# Altium footprint library DIP Connector BtoB.PcbLib: 27 footprints (part 2 of 2)
Each footprint in its own frame and in the unit in brackets; x right, y up, seen from the top. Pads: shape width x height; smd on the part's side, far side on the other; paste and mask are expansions set on the pad; w line width, h text height; cw(c..) or ccw(c..) is an arc to the next point about the centre after c.
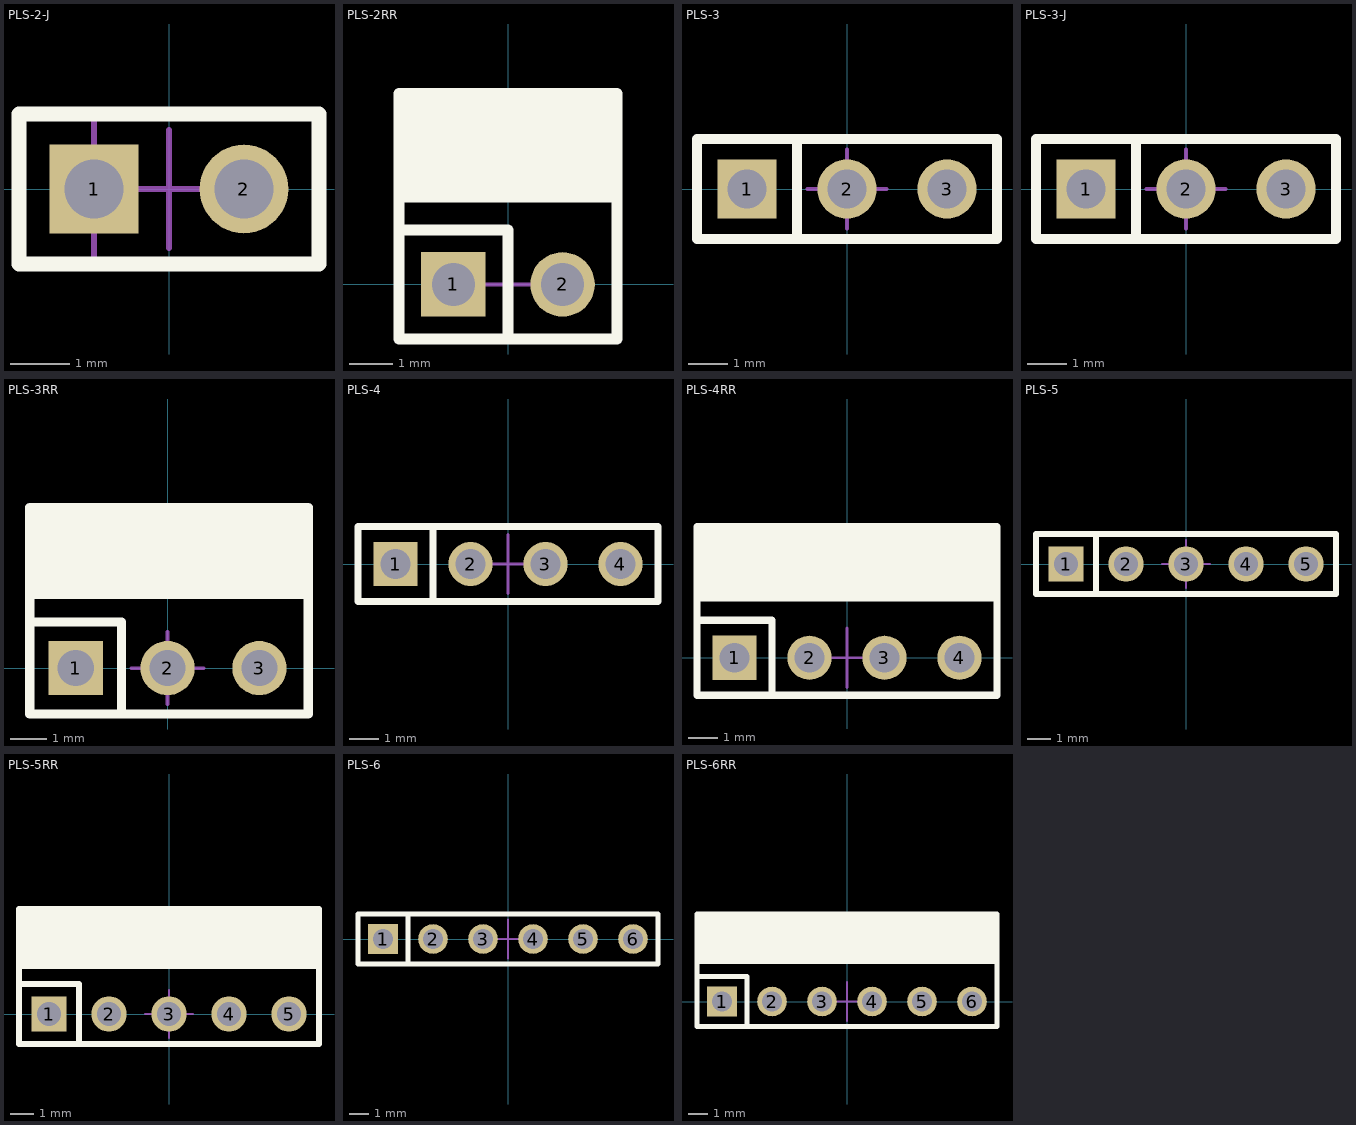
[diagram p1: the footprints below, top view; thin cyan lines are the x and y axes]

## PLS-2-J [mm]
height 10
pads (2):
  rect 1.5x1.5 hole 1: 1(-1.27,0)
  round 1.5 hole 1: 2(1.27,0)
Top Overlay:
  lines w0.25: -2.54,-1.27 2.54,-1.27 2.54,1.27 -2.54,1.27 -2.54,-1.27
Mechanical 13:
  lines w0.1: -1.27,-1.27 -1.27,1.27 ; -2.54,-1.27 2.54,-1.27 2.54,1.27 -2.54,1.27 -2.54,-1.27
Mechanical 15:
  lines w0.1: -1,0 1,0 ; 0,-1 0,1 ; -2.54,-1.27 2.54,-1.27 2.54,1.27 -2.54,1.27 -2.54,-1.27
3D body "User Library-SHORTING JUMPER.step": height 9.45, standoff 3.55, extent -2.54,-1.27 2.54,1.27
3D body "PLS-2.STEP": height 8.9, standoff -2.9, extent -2.54,-1.27 2.54,1.27

## PLS-2RR [mm]
height 10
pads (2):
  rect 1.5x1.5 hole 1: 1(-1.27,0)
  round 1.5 hole 1: 2(1.27,0)
Top Overlay:
  region: 2.54,1.905 2.54,4.445 -2.54,4.445 -2.54,1.905
  lines w0.25: -2.54,1.27 0,1.27 0,-1.27 ; -2.54,-1.27 2.54,-1.27 2.54,4.445 -2.54,4.445 -2.54,-1.27
Mechanical 15:
  lines w0.1: -1,0 1,0 ; 0,-1 0,1 ; -2.54,-1.27 -2.54,4.445 2.54,4.445 2.54,-1.27 -2.54,-1.27
3D body "User Library-Header_Male_RA_Low_2Pin.STEP": height 3.01, standoff -2.5, extent -2.54,-0.32 2.54,9.81

## PLS-3 [mm]
height 10
pads (3):
  rect 1.5x1.5 hole 1: 1(-2.54,0)
  round 1.5 hole 1: 2(0,0) 3(2.54,0)
Top Overlay:
  lines w0.25: -1.27,-1.27 -1.27,1.27 ; -3.81,-1.27 -3.81,1.27 3.81,1.27 3.81,-1.27 -3.81,-1.27
Mechanical 13:
  lines w0.1: -1.27,-1.27 -1.27,1.27 ; -3.81,-1.27 3.81,-1.27 3.81,1.27 -3.81,1.27 -3.81,-1.27
Mechanical 15:
  lines w0.1: -1,0 1,0 ; 0,-1 0,1 ; -3.81,-1.27 -3.81,1.27 3.81,1.27 3.81,-1.27 -3.81,-1.27
3D body "PLS-3.STEP": height 8.9, standoff -2.9, extent -3.81,-1.27 3.81,1.27

## PLS-3-J [mm]
height 10
pads (3):
  rect 1.5x1.5 hole 1: 1(-2.54,0)
  round 1.5 hole 1: 2(0,0) 3(2.54,0)
Top Overlay:
  lines w0.25: -1.27,-1.27 -1.27,1.27 ; -3.81,-1.27 -3.81,1.27 3.81,1.27 3.81,-1.27 -3.81,-1.27
Mechanical 13:
  lines w0.1: -3.81,-1.27 -3.81,1.27 3.81,1.27 3.81,-1.27 -3.81,-1.27
  lines w0.125: -1.27,-1.27 -1.27,1.27
Mechanical 15:
  lines w0.1: -1,0 1,0 ; 0,-1 0,1 ; -3.81,-1.27 -3.81,1.27 3.81,1.27 3.81,-1.27 -3.81,-1.27
3D body "PLS-3.STEP": height 8.9, standoff -2.9, extent -3.81,-1.27 3.81,1.27
3D body "User Library-SHORTING JUMPER.step": height 9.45, standoff 3.55, extent -3.81,-1.27 1.27,1.27

## PLS-3RR [mm]
height 10
pads (3):
  rect 1.5x1.5 hole 1: 1(-2.54,0)
  round 1.5 hole 1: 2(0,0) 3(2.54,0)
Top Overlay:
  region: 3.89,1.905 3.89,4.445 -3.81,4.445 -3.81,1.905
  lines w0.25: -3.81,1.27 -1.27,1.27 -1.27,-1.27 ; -3.81,-1.27 3.89,-1.27 3.89,4.445 -3.81,4.445 -3.81,-1.27
Mechanical 15:
  lines w0.1: -1,0 1,0 ; 0,-1 0,1 ; -3.81,-1.27 -3.81,4.445 3.89,4.445 3.89,-1.27 -3.81,-1.27
3D body "User Library-Header_Male_RA_Low_3Pin.STEP": height 3.01, standoff -2.5, extent -3.81,-0.32 3.81,9.81

## PLS-4 [mm]
height 10
pads (4):
  rect 1.5x1.5 hole 1: 1(-3.81,0)
  round 1.5 hole 1: 2(-1.27,0) 3(1.27,0) 4(3.81,0)
Top Overlay:
  lines w0.25: -2.54,-1.27 -2.54,1.27 ; -5.08,-1.27 5.08,-1.27 5.08,1.27 -5.08,1.27 -5.08,-1.27
Mechanical 13:
  lines w0.1: -2.54,-1.27 -2.54,1.27 ; -5.08,-1.27 -5.08,1.27 5.08,1.27 5.08,-1.27 -5.08,-1.27
Mechanical 15:
  lines w0.1: -1,0 1,0 ; 0,-1 0,1 ; -5.08,-1.27 5.08,-1.27 5.08,1.27 -5.08,1.27 -5.08,-1.27
3D body "PLS-4.STEP": height 8.9, standoff -2.9, extent -5.08,-1.27 5.08,1.27

## PLS-4RR [mm]
height 10
pads (4):
  rect 1.5x1.5 hole 1: 1(-3.81,0)
  round 1.5 hole 1: 2(-1.27,0) 3(1.27,0) 4(3.81,0)
Top Overlay:
  region: 5.08,1.905 5.08,4.445 -5.08,4.445 -5.08,1.905
  lines w0.25: -5.08,1.27 -2.54,1.27 -2.54,-1.27 ; -5.08,-1.27 5.08,-1.27 5.08,4.445 -5.08,4.445 -5.08,-1.27
Mechanical 15:
  lines w0.1: -1,0 1,0 ; 0,-1 0,1 ; -5.08,-1.27 -5.08,4.445 5.08,4.445 5.08,-1.27 -5.08,-1.27
3D body "User Library-Header_Male_RA_Low_4Pin.STEP": height 3.01, standoff -2.5, extent -5.08,-0.32 5.08,9.81

## PLS-5 [mm]
height 10
pads (5):
  rect 1.5x1.5 hole 1: 1(-5.08,0)
  round 1.5 hole 1: 2(-2.54,0) 3(0,0) 4(2.54,0) 5(5.08,0)
Top Overlay:
  lines w0.25: -3.81,-1.27 -3.81,1.27 ; -6.35,-1.27 -6.35,1.27 6.35,1.27 6.35,-1.27 -6.35,-1.27
Mechanical 13:
  lines w0.1: -3.81,-1.27 -3.81,1.27 ; -6.35,-1.27 6.35,-1.27 6.35,1.27 -6.35,1.27 -6.35,-1.27
Mechanical 15:
  lines w0.1: -1,0 1,0 ; 0,-1 0,1 ; -6.35,-1.27 -6.35,1.27 6.35,1.27 6.35,-1.27 -6.35,-1.27
3D body "PLS-5.STEP": height 8.9, standoff -2.9, extent -6.35,-1.27 6.35,1.27

## PLS-5RR [mm]
height 10
pads (5):
  rect 1.5x1.5 hole 1: 1(-5.08,0)
  round 1.5 hole 1: 2(-2.54,0) 3(0,0) 4(2.54,0) 5(5.08,0)
Top Overlay:
  region: 6.35,1.905 6.35,4.445 -6.35,4.445 -6.35,1.905
  lines w0.25: -6.35,1.27 -3.81,1.27 -3.81,-1.27 ; -6.35,-1.27 -6.35,4.445 6.35,4.445 6.35,-1.27 -6.35,-1.27
Mechanical 15:
  lines w0.1: -1,0 1,0 ; 0,-1 0,1 ; -6.35,-1.27 -6.35,4.445 6.35,4.445 6.35,-1.27 -6.35,-1.27
3D body "PLS-5R.STEP": height 2.94, standoff -2.55, extent -6.35,-0.32 6.35,9.9

## PLS-6 [mm]
height 10
pads (6):
  rect 1.5x1.5 hole 1: 1(-6.35,0)
  round 1.5 hole 1: 2(-3.81,0) 3(-1.27,0) 4(1.27,0) 5(3.81,0) 6(6.35,0)
Top Overlay:
  lines w0.25: -5.08,-1.27 -5.08,1.27 ; -7.62,-1.27 -7.62,1.27 7.62,1.27 7.62,-1.27 -7.62,-1.27
Mechanical 13:
  lines w0.1: -5.08,-1.27 -5.08,1.27 ; -7.62,-1.27 -7.62,1.27 7.62,1.27 7.62,-1.27 -7.62,-1.27
Mechanical 15:
  lines w0.1: -1,0 1,0 ; 0,-1 0,1 ; -7.62,-1.27 -7.62,1.27 7.62,1.27 7.62,-1.27 -7.62,-1.27
3D body "PLS-6.STEP": height 8.9, standoff -2.9, extent -7.62,-1.27 7.62,1.27

## PLS-6RR [mm]
height 10
pads (6):
  rect 1.5x1.5 hole 1: 1(-6.35,0)
  round 1.5 hole 1: 2(-3.81,0) 3(-1.27,0) 4(1.27,0) 5(3.81,0) 6(6.35,0)
Top Overlay:
  region: 7.62,1.905 7.62,4.445 -7.62,4.445 -7.62,1.905
  lines w0.25: -7.62,1.27 -5.08,1.27 -5.08,-1.27 ; -7.62,-1.27 -7.62,4.445 7.62,4.445 7.62,-1.27 -7.62,-1.27
Mechanical 15:
  lines w0.1: -1,0 1,0 ; 0,-1 0,1 ; -7.62,-1.27 7.62,-1.27 7.62,4.445 -7.62,4.445 -7.62,-1.27
3D body "User Library-Header_Male_RA_Low_6Pin.STEP": height 3.01, standoff -2.5, extent -7.62,-0.32 7.62,9.81